# Altium footprint library 4WayDIP.PcbLib: 1 footprints
Each footprint in its own frame and in the unit in brackets; x right, y up, seen from the top. Pads: shape width x height; smd on the part's side, far side on the other; paste and mask are expansions set on the pad; w line width, h text height; cw(c..) or ccw(c..) is an arc to the next point about the centre after c.
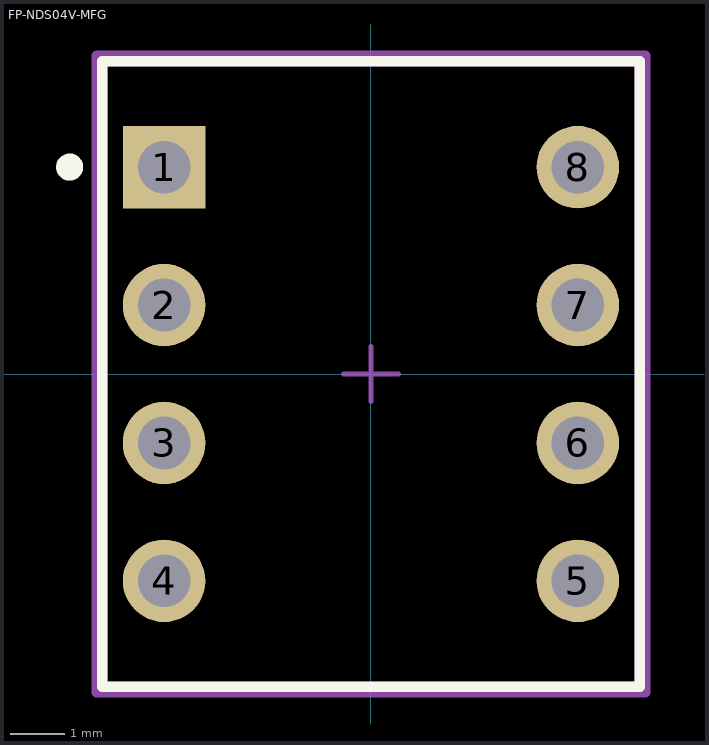
[diagram p0: the footprint, top view; thin cyan lines are the x and y axes]

## FP-NDS04V-MFG [mm]
pads (8):
  rect 1.52x1.52 hole 0.97 paste-2539.97 mask+0: 1(-3.81,3.81)
  round 1.52 hole 0.97 paste-2539.97 mask+0: 2(-3.81,1.27) 3(-3.81,-1.27) 4(-3.81,-3.81) 5(3.81,-3.81) 6(3.81,-1.27) 7(3.81,1.27) 8(3.81,3.81)
Top Overlay:
  circle w0.25: c-5.55,3.81 r0.125
  lines w0.2: -4.95,-5.76 -4.95,5.76 4.95,5.76 4.95,-5.76 -4.95,-5.76
Top Assembly:
  lines w0.2: -5.05,-5.86 -5.05,5.86 5.05,5.86 5.05,-5.86 -5.05,-5.86
  text ".Designator" at 0,0.188 h1
Top 3D Body:
  lines w0.2: -4.95,-5.76 -4.95,5.76 4.95,5.76 4.95,-5.76 -4.95,-5.76
Top Courtyard:
  lines w0.2: -5.05,-5.86 -5.05,5.86 5.05,5.86 5.05,-5.86 -5.05,-5.86
Top Component Center:
  lines w0.1: -0.5,0 0.5,0 ; 0,-0.5 0,0.5
3D body "Switch_APEM_NDS04V_eec.STEP": height 0.25, standoff 0, extent -5.05,-5.86 5.05,5.86